# EAGLE library part WIZ120SR (library wiznet)
2 x RS-232 <--> TCP/IP gate. W5100 PHY/Stack & Cortex-M3 MCU STM32F103C8T6 based.
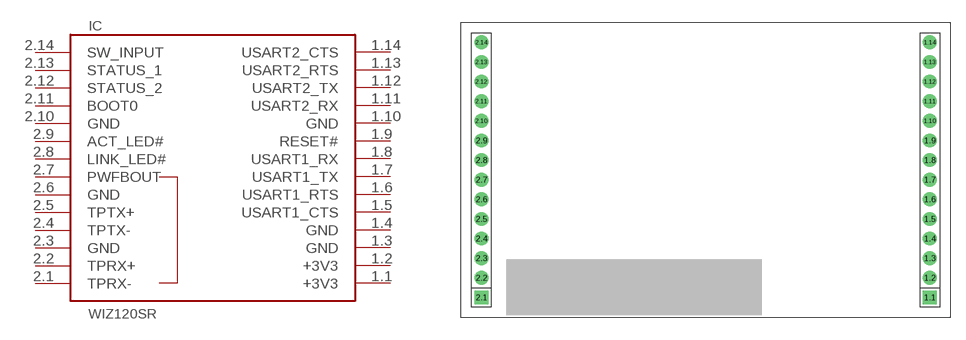
[diagram p2: symbol with the pads of WIZ120SR; footprint WIZ120SR]

Designator prefix IC

## WIZ120SR  [WIZ120SR]
1.1  +3V3  pwr
1.2  +3V3  pwr
1.3  GND  pwr
1.4  GND  pwr
1.5  USART1_CTS
1.6  USART1_RTS
1.7  USART1_TX
1.8  USART1_RX
1.9  RESET#  in
1.10  GND  pwr
1.11  USART2_RX
1.12  USART2_TX
1.13  USART2_RTS
1.14  USART2_CTS
2.1  TPRX-  pas
2.2  TPRX+  pas
2.3  GND  pwr
2.4  TPTX-  pas
2.5  TPTX+  pas
2.6  GND  pwr
2.7  PWFBOUT  pas
2.8  LINK_LED#  out
2.9  ACT_LED#  out
2.10  GND  pwr
2.11  BOOT0  in
2.12  STATUS_2
2.13  STATUS_1
2.14  SW_INPUT

## Footprint WIZ120SR (pad centres in mm)
50x30 mm dimension. 2 mm pinhead step.
drill 0.9 square: 1.1 45.73,0; 2.1 0,0
drill 0.9 round: 1.2 45.73,2; 1.3 45.73,4; 1.4 45.73,6; 1.5 45.73,8; 1.6 45.73,10; 1.7 45.73,12; 1.8 45.73,14; 1.9 45.73,16; 1.10 45.73,18; 1.11 45.73,20; 1.12 45.73,22; 1.13 45.73,24; 1.14 45.73,26; 2.2 0,2; 2.3 0,4; 2.4 0,6; 2.5 0,8; 2.6 0,10; 2.7 0,12; 2.8 0,14; 2.9 0,16; 2.10 0,18; 2.11 0,20; 2.12 0,22; 2.13 0,24; 2.14 0,26